# Altium footprint library HRS_BM29B0.6-24DS_2-0.35V(51).PcbLib: 1 footprints
Each footprint in its own frame and in the unit in brackets; x right, y up, seen from the top. Pads: shape width x height; smd on the part's side, far side on the other; paste and mask are expansions set on the pad; w line width, h text height; cw(c..) or ccw(c..) is an arc to the next point about the centre after c.
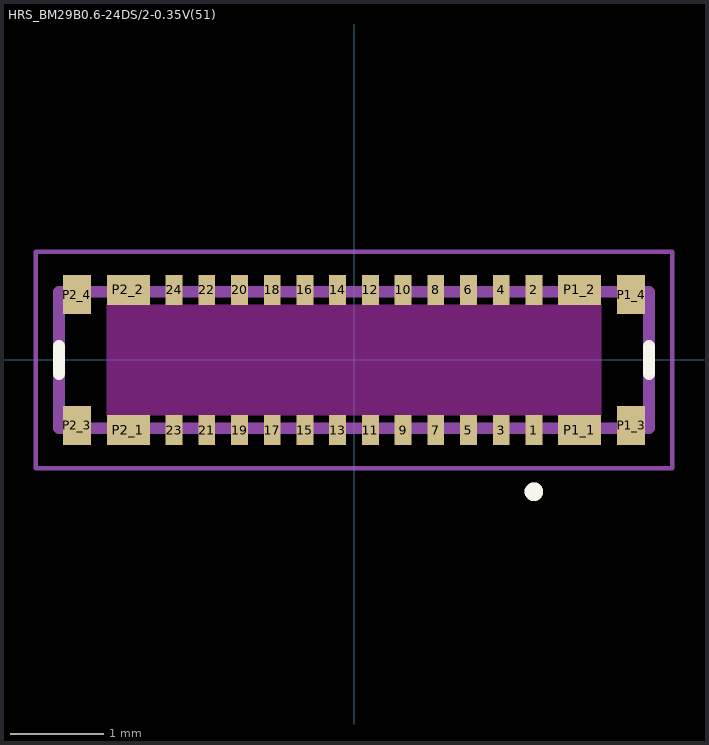
[diagram p0: the footprint, top view; thin cyan lines are the x and y axes]

## HRS_BM29B0.6-24DS/2-0.35V(51) [mm]
pads (32):
  rect 0.18x0.32 smd paste+0 mask+0.05: 1(1.925,-0.75) 2(1.925,0.75) 3(1.575,-0.75) 4(1.575,0.75) 5(1.225,-0.75) 6(1.225,0.75) 7(0.875,-0.75) 8(0.875,0.75) 9(0.525,-0.75) 10(0.525,0.75) 11(0.175,-0.75) 12(0.175,0.75) 13(-0.175,-0.75) 14(-0.175,0.75) 15(-0.525,-0.75) 16(-0.525,0.75) 17(-0.875,-0.75) 18(-0.875,0.75) 19(-1.225,-0.75) 20(-1.225,0.75) 21(-1.575,-0.75) 22(-1.575,0.75) 23(-1.925,-0.75) 24(-1.925,0.75)
  rect 0.46x0.32 smd paste+0 mask+0.05: P1_1(2.415,-0.75) P1_2(2.415,0.75) P2_1(-2.415,-0.75) P2_2(-2.415,0.75)
  rect 0.3x0.42 smd paste+0 mask+0.102: P1_3(2.965,-0.7) P1_4(2.965,0.7) P2_3(-2.965,-0.7) P2_4(-2.965,0.7)
Top Overlay:
  circle w0.1: c1.925,-1.41 r0.05
  lines w0.127: -3.155,-0.15 -3.155,0.15 ; 3.155,-0.15 3.155,0.15
Keep-Out Layer:
  region: 2.645,-0.59 -2.645,-0.59 -2.645,0.59 2.645,0.59
Assembly Top:
  circle w0.1: c1.925,-1.41 r0.05
  lines w0.127: -3.155,-0.73 3.155,-0.73 3.155,0.73 -3.155,0.73 -3.155,-0.73
Courtyard Top:
  lines w0.05: -3.405,-1.16 3.405,-1.16 3.405,1.16 -3.405,1.16 -3.405,-1.16
3D body "step_temp.STEP": height 4.38, standoff -1.93, extent -0.75,-0.57 0.75,0.03